# Altium integrated library passive-quartz.IntLib: 4 symbols
Pins are listed as number, name and electrical type; pins without a type are passive.

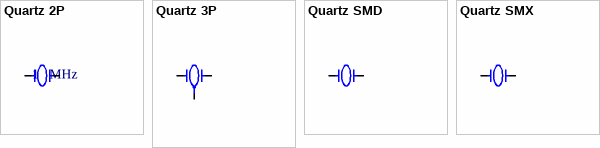
[diagram p0: symbols Quartz 2P to Quartz SMX]

## Quartz 2P
designator G?, comment value 16 MHz  (hidden comment: HC-49/S)
Oscillator SIP2; Name: HC-49/S; RevisionDate: 11-01-2018
footprint SMX-SIP2
pins: 1, 2

## Quartz 3P
designator G?  (value not drawn)
Oscillator SIP3; Name: *; RevisionDate: 11-01-2018; Value: *
footprint SMX-SIP3
pins: 1, 2, 3

## Quartz SMD
designator G?, comment HC-49/SMD  (value not drawn)
Oscillator SMD; Name: HC-49/SMD; RevisionDate: 11-01-2018; Value: *
footprint SMX-3F (HC49-SMD) (QFN, 2-Leads, Body 12,90x4,80mm, Pitch 9,50mm, IPC Medium Density)
pins: 1, 2

## Quartz SMX
designator G?, comment HC-49/SM  (value not drawn)
Oscillator SMX; Name: HC-49/SM; RevisionDate: 11-01-2018; Value: *
footprint SMX-1C-8 (QFN, 2-Leads, Body 8,00x4,50mm, Pitch 6,50mm, IPC Medium Density)
footprint SMX-1C-A (QFN, 2-Leads, Body 7,50x5,00mm, Pitch 6,00mm, IPC Medium Density)
footprint SMX-2C (QFN, 2-Leads, Body 6,00x3,50mm, Pitch 5,00mm, IPC Medium Density)
footprint SMX-3C (QFN, 2-Leads, Body 5,00x3,20mm, Pitch 3,70mm, IPC Medium Density)
footprint SMX-3F (HC49-SMD) (QFN, 2-Leads, Body 12,90x4,80mm, Pitch 9,50mm, IPC Medium Density)
footprint SMX-315 (QFN, 2-Leads, Body 3,20x1,50mm, Pitch 2,50mm, IPC Medium Density)
footprint SMX-415 (QFN, 2-Leads, Body 4,10x1,50mm, Pitch 3,40mm, IPC Medium Density)
pins: 1, 2